# EAGLE library part ADT7463ARQZ (library ON Semiconductor_By_element14_Batch_1)
Remote Thermal Controller
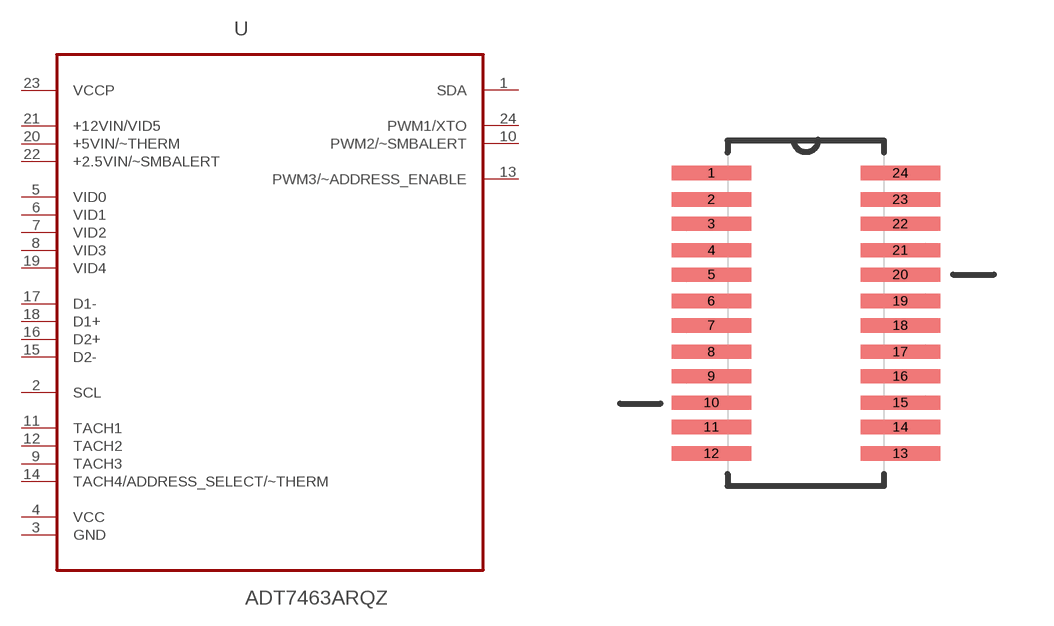
[diagram p7: symbol with the pads of SOP63P600X175-24N; footprint SOP63P600X175-24N]

Designator prefix U

## ADT7463ARQZ (MPN: ADT7463ARQZ; OC_FARNELL: -; OC_NEWARK: 87H9685; P1I: o; PACKAGE: QSOP-24; SUPPLIER: ON SEMICONDUCTOR)  [SOP63P600X175-24N]
1  SDA
2  SCL  in
3  GND  pas
4  VCC  pwr
5  VID0  in
6  VID1  in
7  VID2  in
8  VID3  in
9  TACH3  in
10  PWM2/~SMBALERT  in
11  TACH1  in
12  TACH2  in
13  PWM3/~ADDRESS_ENABLE
14  TACH4/ADDRESS_SELECT/~THERM  in
15  D2-  in
16  D2+  in
17  D1-  in
18  D1+  in
19  VID4  in
20  +5VIN/~THERM  pwr
21  +12VIN/VID5  pwr
22  +2.5VIN/~SMBALERT  pwr
23  VCCP  pwr
24  PWM1/XTO

## Footprint SOP63P600X175-24N (pad centres in mm)
smd 1.981 x 0.356: 1 -2.362,3.505; 2 -2.362,2.845; 3 -2.362,2.235; 4 -2.362,1.575; 5 -2.362,0.965; 6 -2.362,0.305; 7 -2.362,-0.305; 8 -2.362,-0.965; 9 -2.362,-1.575; 10 -2.362,-2.235; 11 -2.362,-2.845; 12 -2.362,-3.505; 13 2.362,-3.505; 14 2.362,-2.845; 15 2.362,-2.235; 16 2.362,-1.575; 17 2.362,-0.965; 18 2.362,-0.305; 19 2.362,0.305; 20 2.362,0.965; 21 2.362,1.575; 22 2.362,2.235; 23 2.362,2.845; 24 2.362,3.505